# Altium integrated library Maxim Sensors.IntLib: 1172 symbols (part 60 of 61)
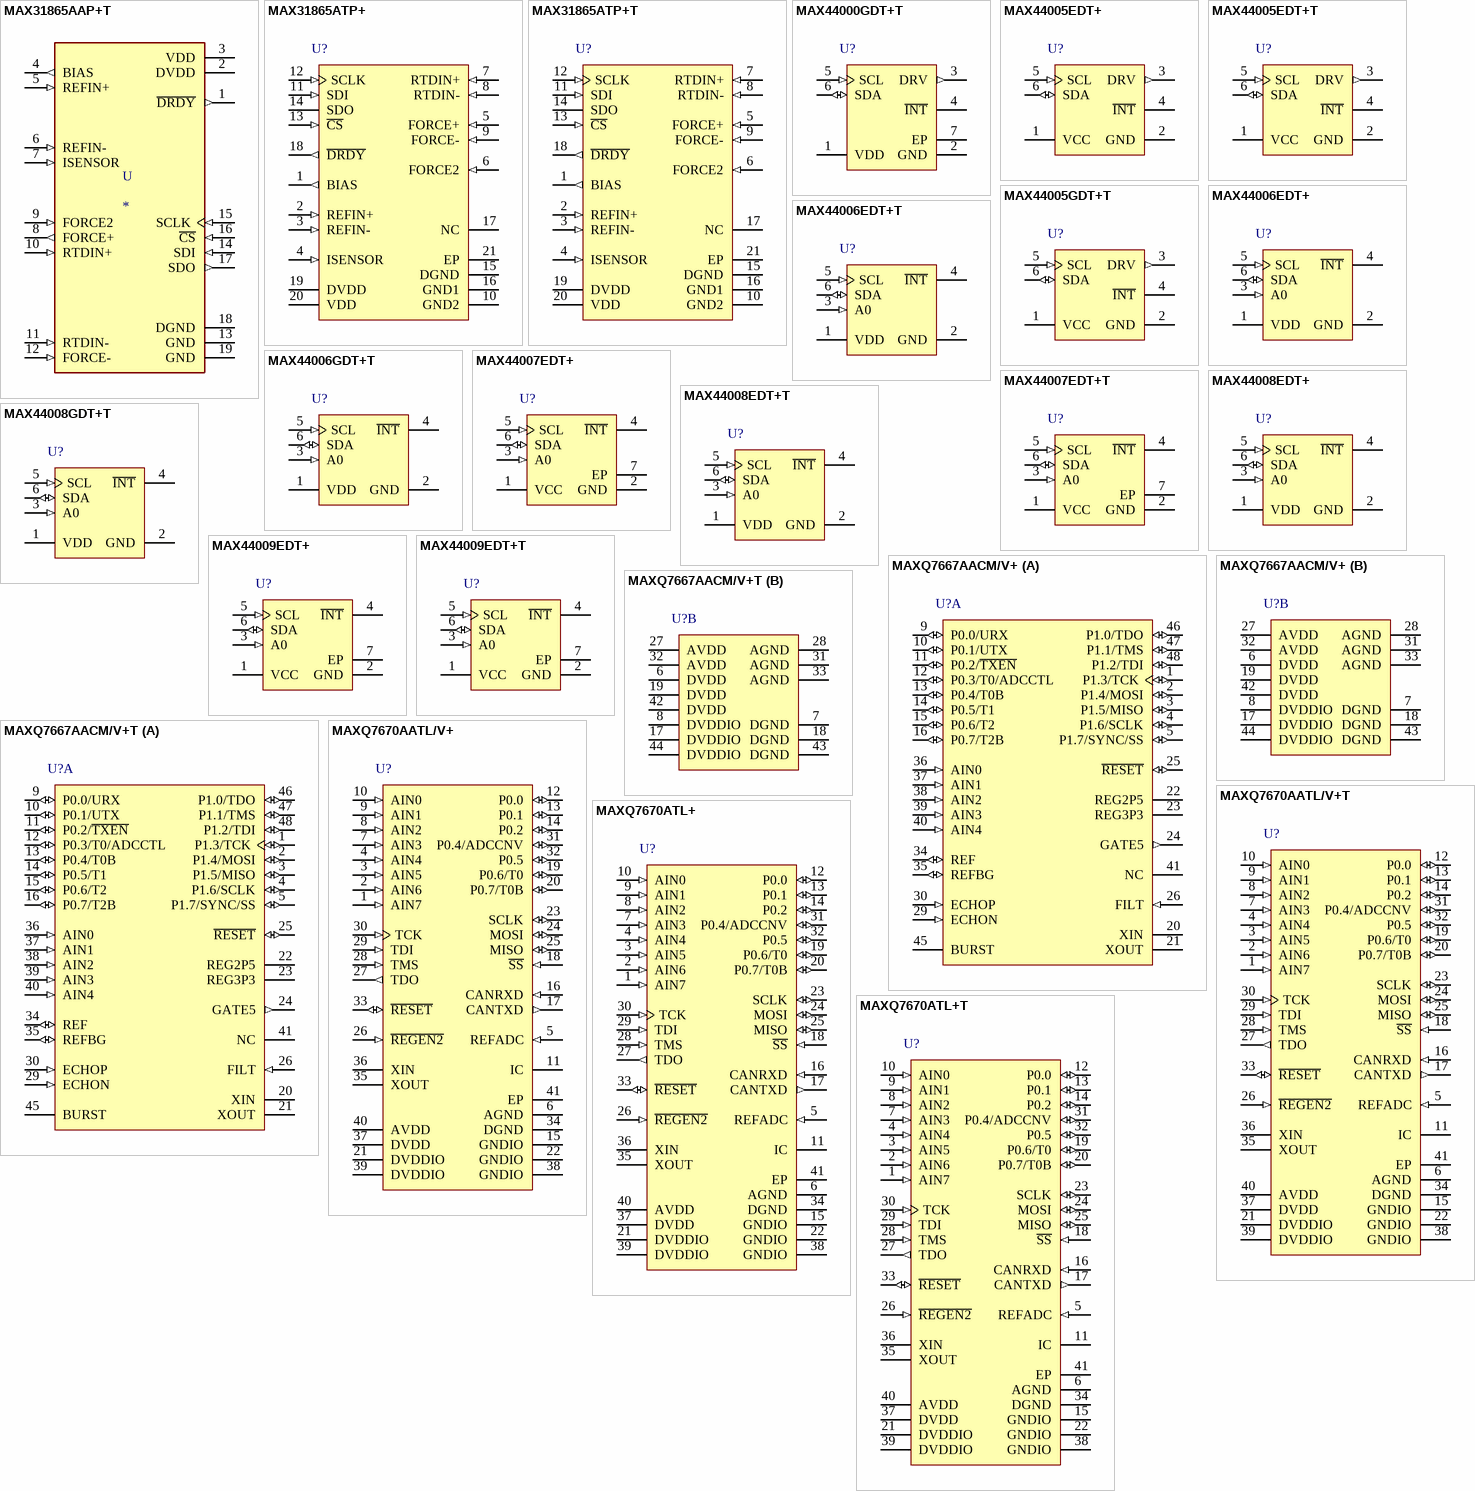
[diagram p92: symbols MAX31865AAP+T to MAXQ7670ATL+T]

## MAXQ7667AACM/V+T
designator U?
16-Bit, RISC, Microcontroller-Based, Ultrasonic Distance-Measuring System, with 12-bit ADC, -40 to 125 degC, 48-Pin QFP (C48+2), Pb-Free, Tape and Reel; Generic Part Number: MAXQ7667; PartNumber: MAXQ7667AACM/V+T; Calibration Method: Integrated microcontroller with FLASH memory; Industry Qualified: Automotive - AECQ100, Automotive - General; Interface: LIN, SPI ,UART; Microcontroller/CPU: Microcontroller (16-bit, 16 MHz); Output Type: Digital; DatasheetVersion: Rev. 1; PackageVersion: Rev. H, 11/2010; PackageReference: C48+2; PackageDescription: 48-Pin Low Quad Flatpack, Body 9 x 9 mm, Pitch 0.5 mm; Supplier 1: Digi-Key; Supplier Part Number 1: MAXQ7667AACM/V+T-ND; Supplier 2: Mouser; Supplier Part Number 2: 700-MAXQ7667AACM/VT; DACs/ADCs: 12-bit ADC; Features: 12-bits SAR, Burst Controller ,Timers ,Ultrasonic Receiver; Packing: Tape and Reel; Mounting Technology: Surface Mount; Code_JEDEC: MS-026; ComponentLink1Description: Manufacturer URL; ComponentLink1URL: http://www.maximintegrated.com/; ComponentLink2Description: Datasheet; ComponentLink2URL: http://datasheets.maximintegrated.com/en/ds/MAXQ7667.pdf; ComponentLink3Description: Package Specification; ComponentLink3URL: http://pdfserv.maximintegrated.com/package_dwgs/21-0054.PDF
footprint MAXM-C48+2_N (QFP, 48-Leads, Body 7x7mm, Pitch 0.5mm, IPC Medium Density)
footprint MAXM-C48+2_L (QFP, 48-Leads, Body 7x7mm, Pitch 0.5mm, IPC High Density)
footprint MAXM-C48+2_M (QFP, 48-Leads, Body 7x7mm, Pitch 0.5mm, IPC Low Density)
part A pins: 1 P1.3/TCK (io), 2 P1.4/MOSI (io), 3 P1.5/MISO (io), 4 P1.6/SCLK (io), 5 P1.7/SYNC/SS (io), 9 P0.0/URX (io), 10 P0.1/UTX (io), 11 P0.2/~{TXEN} (io), 12 P0.3/T0/ADCCTL (io), 13 P0.4/T0B (io), 14 P0.5/T1 (io), 15 P0.6/T2 (io), 16 P0.7/T2B (io), 20 XIN "Crystal Oscillator Input. Connect an external crystal or resonator between XIN and XOUT. When using an external clock source drive XIN with 2.5V level clock while leaving XOUT unconnected. Connect XIN to DGND when an (See Datasheet)", 21 XOUT "Crystal Oscillator Output. Connect an external crystal or resonator between XIN and XOUT. Leave XOUT unconnected when driving XIN with a 2.5V level clock or when an external clock source is not used.", 22 REG2P5 (power) "+2.5V Voltage Regulator Output", 23 REG3P3 (power) "+3.3V Voltage Regulator Output", 24 GATE5 (out) "+5V DVDDIO Voltage Regulator Control Output. GATE5 controls an external npn or nMOS transistor that passes power to DVDDIO.", 25 ~{RESET} (io) "Reset Input/Output. R\E\S\E\T\ is open drain with an internal pullup resistor to DVDDIO. Internal circuitry pulls R\E\S\E\T\ low when VDVDDIO falls below its brownout reset value or watchdog reset is enabled and the watchdog (See Datasheet)", 26 FILT (in) "PLL VCO Control Input. Connect external filter components on FILT for the internal PLL circuit. See the Typical Application Circuit/Functional Diagram.", 29 ECHON (in) "Negative Echo Input. AC-couple ECHON to an ultrasonic transducer.", 30 ECHOP (in) "Positive Echo Input. AC-couple ECHOP to an ultrasonic transducer.", 34 REF (io) "ADC Reference Input/Reference Buffer Output. When using the internal reference, the buffered bandgap reference voltage (VREF) is provided for both SAR and sigma-delta ADCs. When using an external reference, apply an external (See Datasheet)", 35 REFBG (io) "+2.5V Reference Output/Reference Buffer Input. Bypass to AGND with a 0.47uF capacitor.", 36 AIN0 (in) "SAR ADC Input 0. AIN0 pairs with AIN1 in differential mode.", 37 AIN1 (in) "SAR ADC Input 1. AIN1 pairs with AIN0 in differential mode.", 38 AIN2 (in) "SAR ADC Input 2. AIN2 pairs with AIN3 in differential mode.", 39 AIN3 (in) "SAR ADC Input 3. AIN3 pairs with AIN2 in differential mode.", 40 AIN4 (in) "SAR ADC Input 4", 41 NC "No Connection. Internally connected. Leave unconnected.", 45 BURST (hiz) "Burst Output. Burst is the ultrasonic transducer excitation pulse output. BURST remains in threestate mode on power-up.", 46 P1.0/TDO (io), 47 P1.1/TMS (io), 48 P1.2/TDI (io)
part B pins: 6 DVDD (power) "Digital Supply Voltage. Connect DVDD directly to a +2.5V external source or to REG2P5 output for single supply operation. Bypass DVDD to DGND with a 0.1uF capacitor as close as possible to the device. Connect all DVDD nodes (See Datasheet)", 7 DGND (power) "Digital Ground. Connect all DGND nodes together. Connect to AGND at a single point.", 8 DVDDIO (power) "Digital I/O Supply Voltage. DVDDIO powers all digital I/Os except for XIN and XOUT. Bypass DVDDIO to DGND with a 0.1uF capacitor as close as possible to the device. Connect all DVDDIO nodes together.", 17 DVDDIO (power) "Digital I/O Supply Voltage. DVDDIO powers all digital I/Os except for XIN and XOUT. Bypass DVDDIO to DGND with a 0.1uF capacitor as close as possible to the device. Connect all DVDDIO nodes together.", 18 DGND (power) "Digital Ground. Connect all DGND nodes together. Connect to AGND at a single point.", 19 DVDD (power) "Digital Supply Voltage. Connect DVDD directly to a +2.5V external source or to REG2P5 output for single supply operation. Bypass DVDD to DGND with a 0.1uF capacitor as close as possible to the device. Connect all DVDD nodes (See Datasheet)", 27 AVDD (power) "Analog Supply Voltage. Connect all AVDD inputs directly to a +3.3V source or to REG3P3 for selfpowered operation. Bypass each AVDD to AGND with a 0.1uF capacitor as close as possible to the device.", 28 AGND (power) "Analog Ground. Connect all AGND nodes together. Connect to DGND at a single point.", 31 AGND (power) "Analog Ground. Connect all AGND nodes together. Connect to DGND at a single point.", 32 AVDD (power) "Analog Supply Voltage. Connect all AVDD inputs directly to a +3.3V source or to REG3P3 for selfpowered operation. Bypass each AVDD to AGND with a 0.1uF capacitor as close as possible to the device.", 33 AGND (power) "Analog Ground. Connect all AGND nodes together. Connect to DGND at a single point.", 42 DVDD (power) "Digital Supply Voltage. Connect DVDD directly to a +2.5V external source or to REG2P5 output for single supply operation. Bypass DVDD to DGND with a 0.1uF capacitor as close as possible to the device. Connect all DVDD nodes (See Datasheet)", 43 DGND (power) "Digital Ground. Connect all DGND nodes together. Connect to AGND at a single point.", 44 DVDDIO (power) "Digital I/O Supply Voltage. DVDDIO powers all digital I/Os except for XIN and XOUT. Bypass DVDDIO to DGND with a 0.1uF capacitor as close as possible to the device. Connect all DVDDIO nodes together."

## MAXQ7670AATL/V+
designator U?
Microcontroller with 12-Bit ADC, PGA, 64 KB Flash, and CAN Interface, -40 to 125 degC, 40-Pin QFN (T4055+1), Pb-Free; Generic Part Number: MAXQ7670A; PartNumber: MAXQ7670AATL/V+; Calibration Method: Integrated microcontroller with FLASH memory; Interface: CAN, SPI; Microcontroller/CPU: Microcontroller (16-bit, 16 MHz); Output Type: Digital; DatasheetVersion: Rev. 0; PackageVersion: Rev. Q, 09/2011; PackageReference: T4055+1; PackageDescription: 40-Pin Thin Quad Flatpack, No Leads, Body 5 x 5 mm, Pitch 0.4 mm; Supplier 1: Digi-Key; Supplier Part Number 1: MAXQ7670AATL/V+-ND; Supplier 2: Mouser; Supplier Part Number 2: 700-MAXQ7670AATL/V+; DACs/ADCs: 12-bit ADC; Features: FLL, Internal Voltage Regulator, Multiple External Interrupts, Programmable-Gain Amplifier; Mounting Technology: Surface Mount; ComponentLink1Description: Manufacturer URL; ComponentLink1URL: http://www.maximintegrated.com/; ComponentLink2Description: Datasheet; ComponentLink2URL: http://datasheets.maximintegrated.com/en/ds/MAXQ7670A.pdf; ComponentLink3Description: Package Specification; ComponentLink3URL: http://pdfserv.maximintegrated.com/package_dwgs/21-0140.PDF
footprint MAXM-T4055+1_N (QFN, 40-Leads, Body 5x5mm, Pitch 0.4mm, Thermal Pad 3.5x3.5mm, IPC Medium Density)
footprint MAXM-T4055+1_L (QFN, 40-Leads, Body 5x5mm, Pitch 0.4mm, Thermal Pad 3.5x3.5mm, IPC High Density)
footprint MAXM-T4055+1_M (QFN, 40-Leads, Body 5x5mm, Pitch 0.4mm, Thermal Pad 3.5x3.5mm, IPC Low Density)
pins: 1 AIN7 (in) "Analog Input Channel 7. AIN7 is multiplexed to the PGA or ADC as single-ended analog input 7 or as a differential input with AIN6. As a differential input, the polarity of AIN7 is negative.", 2 AIN6 (in) "Analog Input Channel 6. AIN6 is multiplexed to the PGA or ADC as a single-ended analog input 6 or as a differential input with AIN7. As a differential input, the polarity of AIN6 is positive.", 3 AIN5 (in) "Analog Input Channel 5. AIN5 is multiplexed to the PGA or ADC as single-ended analog input 5 or as a differential input with AIN4. As a differential input, the polarity of AIN5 is negative.", 4 AIN4 (in) "Analog Input Channel 4. AIN4 is multiplexed to the PGA or ADC as single-ended analog input 4 or as a differential input with AIN5. As a differential input, the polarity of AIN4 is positive.", 5 REFADC (in) "ADC External Reference Input. Connect an external reference between 1V and VAVDD.", 6 AGND (power) "Analog Ground", 7 AIN3 (in) "Analog Input Channel 3. AIN3 is multiplexed to the PGA or ADC as single-ended analog input 3 or as a differential input with AIN2. As a differential input, the polarity of AIN3 is negative.", 8 AIN2 (in) "Analog Input Channel 2. AIN2 is multiplexed to the PGA or ADC as single-ended analog input 2 or as a differential input with AIN3. As a differential input, the polarity of AIN2 is positive.", 9 AIN1 (in) "Analog Input Channel 1. AIN1 is multiplexed to the PGA or ADC as single-ended analog input 1 or as a differential input with AIN0. As a differential input, the polarity of AIN1 is negative.", 10 AIN0 (in) "Analog Input Channel 0. AIN0 is multiplexed to the PGA or ADC as single-ended analog input 0 or as a differential input with AIN1. As a differential input, the polarity of AIN0 is positive.", 11 IC "Internally Connected. Connect to GNDIO for proper operation.", 12 P0.0 (io) "Port 0 Bit 0. P0.0 is a general-purpose digital I/O with interrupt/wake-up capability.", 13 P0.1 (io) "Port 0 Bit 1. P0.1 is a general-purpose digital I/O with interrupt/wake-up capability.", 14 P0.2 (io) "Port 0 Bit 2. P0.2 is a general-purpose digital I/O with interrupt/wake-up capability.", 15 GNDIO (power) "Digital I/O Ground and Regulator Ground", 16 CANRXD (in) "CAN Bus Receiver Input. CAN receiver input.", 17 CANTXD (out) "CAN Bus Transmitter Output. CAN transmitter output.", 18 ~{SS} (in) "Active-Low, SPI Port Slave Select Input. In SPI slave mode, this is the slave select input. In SPI master mode, this is an input and connection is optional (connect if mode fault enable is required, refer to the MAXQ7670 (See Datasheet)", 19 P0.6/T0 (io), 20 P0.7/T0B (io), 21 DVDDIO (power) "Digital I/O Supply Voltage and Regulator Supply Input. DVDDIO supplies all digital I/O except for XIN and XOUT, and supplies power to the two internal linear regulators, AVDD and DVDD. Bypass DVDDIO to GNDIO with a 0.1uF (See Datasheet)", 22 GNDIO (power) "Digital I/O Ground and Regulator Ground", 23 SCLK (io) "SPI Serial Clock. SCLK is the SPI interface serial clock I/O. In SPI master mode, SCLK is an output. While in SPI slave mode, SCLK is an input.", 24 MOSI (io) "SPI Serial Data I/O. MOSI is the SPI interface serial data output in master mode or serial data input in slave mode.", 25 MISO (io) "SPI Serial Data I/O. MISO is the SPI interface serial data input in master mode or serial data output in slave mode.", 26 ~{REGEN2} (in) "Active-Low +2.5V Linear Regulator Enable Input. Connect R\E\G\E\N\2\ to GNDIO to enable the +2.5V linear regulator. Connect to DVDDIO to disable the +2.5V linear regulator.", 27 TDO (out) "JTAG Serial Test Data Output. TDO is the JTAG serial test, data output.", 28 TMS (in) "JTAG Test Mode Select. TMS is the JTAG test mode, select input.", 29 TDI (in) "JTAG Serial Test Data Input. TDI is the JTAG serial test, data input.", 30 TCK (in) "JTAG Serial Test Clock Input. TCK is the JTAG serial test, clock input.", 31 P0.4/ADCCNV (io), 32 P0.5 (io) "Port 0 Bit 5. P0.5 is a general-purpose digital I/O with interrupt/wake-up capability.", 33 ~{RESET} (io) "Reset Input/Output. Active-low input/output with internal 55k ohm pullup to DVDDIO. Drive low to reset the MAXQ7670A. The MAXQ20 uC core holds R\E\S\E\T\ low during POR and during DVDD brownout conditions.", 34 DGND (power) "Digital Ground", 35 XOUT "High-Frequency Crystal Output. Connect an external crystal to XIN and XOUT for normal operation, or leave unconnected if XIN is driven with an external clock source. Leave unconnected if an external clock source is not used.", 36 XIN "High-Frequency Crystal Input. Connect an external crystal or resonator to XIN and XOUT for normal operation, or drive XIN with an external clock source. Leave unconnected if an external clock source is not used .", 37 DVDD (power) "Digital Supply Voltage. DVDD supplies internal digital core and flash memory. DVDD is directly connected to the output of the internal + 2.5V linear regulator . Disable the internal regulator (through R\E\G\E\N\2\) to (See Datasheet)", 38 GNDIO (power) "Digital I/O Ground and Regulator Ground", 39 DVDDIO (power) "Digital I/O Supply Voltage and Regulator Supply Input. DVDDIO supplies all digital I/O except for XIN and XOUT, and supplies power to the two internal linear regulators, AVDD and DVDD. Bypass DVDDIO to GNDIO with a 0.1uF (See Datasheet)", 40 AVDD (power) "Analog Supply Voltage. AVDD supplies PGA and ADC. AVDD is directly connected to the output of the internal +3.3V linear regulator. Disable the internal regulator (via software) to connect an external supply.Bypass AVDD to (See Datasheet)", 41 EP (power) "Exposed Pad. Connect EP to the ground plane."

## MAXQ7670AATL/V+T
designator U?
Microcontroller with 12-Bit ADC, PGA, 64 KB Flash, and CAN Interface, -40 to 125 degC, 40-Pin QFN (T4055+1), Pb-Free, Tape and Reel; Generic Part Number: MAXQ7670A; PartNumber: MAXQ7670AATL/V+T; Calibration Method: Integrated microcontroller with FLASH memory; Interface: CAN, SPI; Microcontroller/CPU: Microcontroller (16-bit, 16 MHz); Output Type: Digital; DatasheetVersion: Rev. 0; PackageVersion: Rev. Q, 09/2011; PackageReference: T4055+1; PackageDescription: 40-Pin Thin Quad Flatpack, No Leads, Body 5 x 5 mm, Pitch 0.4 mm; Supplier 1: Digi-Key; Supplier Part Number 1: MAXQ7670AATL/V+T-ND; Supplier 2: Mouser; Supplier Part Number 2: 700-MAXQ7670AATL/V+T; DACs/ADCs: 12-bit ADC; Features: FLL, Internal Voltage Regulator ,Multiple External Interrupts ,Programmable-Gain Amplifier; Packing: Tape and Reel; Mounting Technology: Surface Mount; ComponentLink1Description: Manufacturer URL; ComponentLink1URL: http://www.maximintegrated.com/; ComponentLink2Description: Datasheet; ComponentLink2URL: http://datasheets.maximintegrated.com/en/ds/MAXQ7670A.pdf; ComponentLink3Description: Package Specification; ComponentLink3URL: http://pdfserv.maximintegrated.com/package_dwgs/21-0140.PDF
footprint MAXM-T4055+1_N (QFN, 40-Leads, Body 5x5mm, Pitch 0.4mm, Thermal Pad 3.5x3.5mm, IPC Medium Density)
footprint MAXM-T4055+1_L (QFN, 40-Leads, Body 5x5mm, Pitch 0.4mm, Thermal Pad 3.5x3.5mm, IPC High Density)
footprint MAXM-T4055+1_M (QFN, 40-Leads, Body 5x5mm, Pitch 0.4mm, Thermal Pad 3.5x3.5mm, IPC Low Density)
pins: 1 AIN7 (in) "Analog Input Channel 7. AIN7 is multiplexed to the PGA or ADC as single-ended analog input 7 or as a differential input with AIN6. As a differential input, the polarity of AIN7 is negative.", 2 AIN6 (in) "Analog Input Channel 6. AIN6 is multiplexed to the PGA or ADC as a single-ended analog input 6 or as a differential input with AIN7. As a differential input, the polarity of AIN6 is positive.", 3 AIN5 (in) "Analog Input Channel 5. AIN5 is multiplexed to the PGA or ADC as single-ended analog input 5 or as a differential input with AIN4. As a differential input, the polarity of AIN5 is negative.", 4 AIN4 (in) "Analog Input Channel 4. AIN4 is multiplexed to the PGA or ADC as single-ended analog input 4 or as a differential input with AIN5. As a differential input, the polarity of AIN4 is positive.", 5 REFADC (in) "ADC External Reference Input. Connect an external reference between 1V and VAVDD.", 6 AGND (power) "Analog Ground", 7 AIN3 (in) "Analog Input Channel 3. AIN3 is multiplexed to the PGA or ADC as single-ended analog input 3 or as a differential input with AIN2. As a differential input, the polarity of AIN3 is negative.", 8 AIN2 (in) "Analog Input Channel 2. AIN2 is multiplexed to the PGA or ADC as single-ended analog input 2 or as a differential input with AIN3. As a differential input, the polarity of AIN2 is positive.", 9 AIN1 (in) "Analog Input Channel 1. AIN1 is multiplexed to the PGA or ADC as single-ended analog input 1 or as a differential input with AIN0. As a differential input, the polarity of AIN1 is negative.", 10 AIN0 (in) "Analog Input Channel 0. AIN0 is multiplexed to the PGA or ADC as single-ended analog input 0 or as a differential input with AIN1. As a differential input, the polarity of AIN0 is positive.", 11 IC "Internally Connected. Connect to GNDIO for proper operation.", 12 P0.0 (io) "Port 0 Bit 0. P0.0 is a general-purpose digital I/O with interrupt/wake-up capability.", 13 P0.1 (io) "Port 0 Bit 1. P0.1 is a general-purpose digital I/O with interrupt/wake-up capability.", 14 P0.2 (io) "Port 0 Bit 2. P0.2 is a general-purpose digital I/O with interrupt/wake-up capability.", 15 GNDIO (power) "Digital I/O Ground and Regulator Ground", 16 CANRXD (in) "CAN Bus Receiver Input. CAN receiver input.", 17 CANTXD (out) "CAN Bus Transmitter Output. CAN transmitter output.", 18 ~{SS} (in) "Active-Low, SPI Port Slave Select Input. In SPI slave mode, this is the slave select input. In SPI master mode, this is an input and connection is optional (connect if mode fault enable is required, refer to the MAXQ7670 (See Datasheet)", 19 P0.6/T0 (io), 20 P0.7/T0B (io), 21 DVDDIO (power) "Digital I/O Supply Voltage and Regulator Supply Input. DVDDIO supplies all digital I/O except for XIN and XOUT, and supplies power to the two internal linear regulators, AVDD and DVDD. Bypass DVDDIO to GNDIO with a 0.1uF (See Datasheet)", 22 GNDIO (power) "Digital I/O Ground and Regulator Ground", 23 SCLK (io) "SPI Serial Clock. SCLK is the SPI interface serial clock I/O. In SPI master mode, SCLK is an output. While in SPI slave mode, SCLK is an input.", 24 MOSI (io) "SPI Serial Data I/O. MOSI is the SPI interface serial data output in master mode or serial data input in slave mode.", 25 MISO (io) "SPI Serial Data I/O. MISO is the SPI interface serial data input in master mode or serial data output in slave mode.", 26 ~{REGEN2} (in) "Active-Low +2.5V Linear Regulator Enable Input. Connect R\E\G\E\N\2\ to GNDIO to enable the +2.5V linear regulator. Connect to DVDDIO to disable the +2.5V linear regulator.", 27 TDO (out) "JTAG Serial Test Data Output. TDO is the JTAG serial test, data output.", 28 TMS (in) "JTAG Test Mode Select. TMS is the JTAG test mode, select input.", 29 TDI (in) "JTAG Serial Test Data Input. TDI is the JTAG serial test, data input.", 30 TCK (in) "JTAG Serial Test Clock Input. TCK is the JTAG serial test, clock input.", 31 P0.4/ADCCNV (io), 32 P0.5 (io) "Port 0 Bit 5. P0.5 is a general-purpose digital I/O with interrupt/wake-up capability.", 33 ~{RESET} (io) "Reset Input/Output. Active-low input/output with internal 55k ohm pullup to DVDDIO. Drive low to reset the MAXQ7670A. The MAXQ20 uC core holds R\E\S\E\T\ low during POR and during DVDD brownout conditions.", 34 DGND (power) "Digital Ground", 35 XOUT "High-Frequency Crystal Output. Connect an external crystal to XIN and XOUT for normal operation, or leave unconnected if XIN is driven with an external clock source. Leave unconnected if an external clock source is not used.", 36 XIN "High-Frequency Crystal Input. Connect an external crystal or resonator to XIN and XOUT for normal operation, or drive XIN with an external clock source. Leave unconnected if an external clock source is not used .", 37 DVDD (power) "Digital Supply Voltage. DVDD supplies internal digital core and flash memory. DVDD is directly connected to the output of the internal + 2.5V linear regulator . Disable the internal regulator (through R\E\G\E\N\2\) to (See Datasheet)", 38 GNDIO (power) "Digital I/O Ground and Regulator Ground", 39 DVDDIO (power) "Digital I/O Supply Voltage and Regulator Supply Input. DVDDIO supplies all digital I/O except for XIN and XOUT, and supplies power to the two internal linear regulators, AVDD and DVDD. Bypass DVDDIO to GNDIO with a 0.1uF (See Datasheet)", 40 AVDD (power) "Analog Supply Voltage. AVDD supplies PGA and ADC. AVDD is directly connected to the output of the internal +3.3V linear regulator. Disable the internal regulator (via software) to connect an external supply.Bypass AVDD to (See Datasheet)", 41 EP (power) "Exposed Pad. Connect EP to the ground plane."

## MAXQ7670ATL+
designator U?
Microcontroller with 12-Bit ADC, PGA, 64 KB Flash, and CAN Interface, -40 to 125 degC, 40-Pin QFN (T4055+1), Pb-Free; Generic Part Number: MAXQ7670A; PartNumber: MAXQ7670ATL+; Calibration Method: Integrated microcontroller with FLASH memory; Interface: CAN, SPI; Microcontroller/CPU: Microcontroller (16-bit, 16 MHz); Output Type: Digital; DatasheetVersion: Rev. 0; PackageVersion: Rev. Q, 09/2011; PackageReference: T4055+1; PackageDescription: 40-Pin Thin Quad Flatpack, No Leads, Body 5 x 5 mm, Pitch 0.4 mm; Supplier 1: Digi-Key; Supplier Part Number 1: MAXQ7670ATL+-ND; Supplier 2: Mouser; Supplier Part Number 2: 700-MAXQ7670ATL; DACs/ADCs: 12-bit ADC; Features: FLL, Internal Voltage Regulator ,Multiple External Interrupts ,Programmable-Gain Amplifier; Mounting Technology: Surface Mount; ComponentLink1Description: Manufacturer URL; ComponentLink1URL: http://www.maximintegrated.com/; ComponentLink2Description: Datasheet; ComponentLink2URL: http://datasheets.maximintegrated.com/en/ds/MAXQ7670A.pdf; ComponentLink3Description: Package Specification; ComponentLink3URL: http://pdfserv.maximintegrated.com/package_dwgs/21-0140.PDF
footprint MAXM-T4055+1_N (QFN, 40-Leads, Body 5x5mm, Pitch 0.4mm, Thermal Pad 3.5x3.5mm, IPC Medium Density)
footprint MAXM-T4055+1_L (QFN, 40-Leads, Body 5x5mm, Pitch 0.4mm, Thermal Pad 3.5x3.5mm, IPC High Density)
footprint MAXM-T4055+1_M (QFN, 40-Leads, Body 5x5mm, Pitch 0.4mm, Thermal Pad 3.5x3.5mm, IPC Low Density)
pins: 1 AIN7 (in) "Analog Input Channel 7. AIN7 is multiplexed to the PGA or ADC as single-ended analog input 7 or as a differential input with AIN6. As a differential input, the polarity of AIN7 is negative.", 2 AIN6 (in) "Analog Input Channel 6. AIN6 is multiplexed to the PGA or ADC as a single-ended analog input 6 or as a differential input with AIN7. As a differential input, the polarity of AIN6 is positive.", 3 AIN5 (in) "Analog Input Channel 5. AIN5 is multiplexed to the PGA or ADC as single-ended analog input 5 or as a differential input with AIN4. As a differential input, the polarity of AIN5 is negative.", 4 AIN4 (in) "Analog Input Channel 4. AIN4 is multiplexed to the PGA or ADC as single-ended analog input 4 or as a differential input with AIN5. As a differential input, the polarity of AIN4 is positive.", 5 REFADC (in) "ADC External Reference Input. Connect an external reference between 1V and VAVDD.", 6 AGND (power) "Analog Ground", 7 AIN3 (in) "Analog Input Channel 3. AIN3 is multiplexed to the PGA or ADC as single-ended analog input 3 or as a differential input with AIN2. As a differential input, the polarity of AIN3 is negative.", 8 AIN2 (in) "Analog Input Channel 2. AIN2 is multiplexed to the PGA or ADC as single-ended analog input 2 or as a differential input with AIN3. As a differential input, the polarity of AIN2 is positive.", 9 AIN1 (in) "Analog Input Channel 1. AIN1 is multiplexed to the PGA or ADC as single-ended analog input 1 or as a differential input with AIN0. As a differential input, the polarity of AIN1 is negative.", 10 AIN0 (in) "Analog Input Channel 0. AIN0 is multiplexed to the PGA or ADC as single-ended analog input 0 or as a differential input with AIN1. As a differential input, the polarity of AIN0 is positive.", 11 IC "Internally Connected. Connect to GNDIO for proper operation.", 12 P0.0 (io) "Port 0 Bit 0. P0.0 is a general-purpose digital I/O with interrupt/wake-up capability.", 13 P0.1 (io) "Port 0 Bit 1. P0.1 is a general-purpose digital I/O with interrupt/wake-up capability.", 14 P0.2 (io) "Port 0 Bit 2. P0.2 is a general-purpose digital I/O with interrupt/wake-up capability.", 15 GNDIO (power) "Digital I/O Ground and Regulator Ground", 16 CANRXD (in) "CAN Bus Receiver Input. CAN receiver input.", 17 CANTXD (out) "CAN Bus Transmitter Output. CAN transmitter output.", 18 ~{SS} (in) "Active-Low, SPI Port Slave Select Input. In SPI slave mode, this is the slave select input. In SPI master mode, this is an input and connection is optional (connect if mode fault enable is required, refer to the MAXQ7670 (See Datasheet)", 19 P0.6/T0 (io), 20 P0.7/T0B (io), 21 DVDDIO (power) "Digital I/O Supply Voltage and Regulator Supply Input. DVDDIO supplies all digital I/O except for XIN and XOUT, and supplies power to the two internal linear regulators, AVDD and DVDD. Bypass DVDDIO to GNDIO with a 0.1uF (See Datasheet)", 22 GNDIO (power) "Digital I/O Ground and Regulator Ground", 23 SCLK (io) "SPI Serial Clock. SCLK is the SPI interface serial clock I/O. In SPI master mode, SCLK is an output. While in SPI slave mode, SCLK is an input.", 24 MOSI (io) "SPI Serial Data I/O. MOSI is the SPI interface serial data output in master mode or serial data input in slave mode.", 25 MISO (io) "SPI Serial Data I/O. MISO is the SPI interface serial data input in master mode or serial data output in slave mode.", 26 ~{REGEN2} (in) "Active-Low +2.5V Linear Regulator Enable Input. Connect R\E\G\E\N\2\ to GNDIO to enable the +2.5V linear regulator. Connect to DVDDIO to disable the +2.5V linear regulator.", 27 TDO (out) "JTAG Serial Test Data Output. TDO is the JTAG serial test, data output.", 28 TMS (in) "JTAG Test Mode Select. TMS is the JTAG test mode, select input.", 29 TDI (in) "JTAG Serial Test Data Input. TDI is the JTAG serial test, data input.", 30 TCK (in) "JTAG Serial Test Clock Input. TCK is the JTAG serial test, clock input.", 31 P0.4/ADCCNV (io), 32 P0.5 (io) "Port 0 Bit 5. P0.5 is a general-purpose digital I/O with interrupt/wake-up capability.", 33 ~{RESET} (io) "Reset Input/Output. Active-low input/output with internal 55k ohm pullup to DVDDIO. Drive low to reset the MAXQ7670A. The MAXQ20 uC core holds R\E\S\E\T\ low during POR and during DVDD brownout conditions.", 34 DGND (power) "Digital Ground", 35 XOUT "High-Frequency Crystal Output. Connect an external crystal to XIN and XOUT for normal operation, or leave unconnected if XIN is driven with an external clock source. Leave unconnected if an external clock source is not used.", 36 XIN "High-Frequency Crystal Input. Connect an external crystal or resonator to XIN and XOUT for normal operation, or drive XIN with an external clock source. Leave unconnected if an external clock source is not used .", 37 DVDD (power) "Digital Supply Voltage. DVDD supplies internal digital core and flash memory. DVDD is directly connected to the output of the internal + 2.5V linear regulator . Disable the internal regulator (through R\E\G\E\N\2\) to (See Datasheet)", 38 GNDIO (power) "Digital I/O Ground and Regulator Ground", 39 DVDDIO (power) "Digital I/O Supply Voltage and Regulator Supply Input. DVDDIO supplies all digital I/O except for XIN and XOUT, and supplies power to the two internal linear regulators, AVDD and DVDD. Bypass DVDDIO to GNDIO with a 0.1uF (See Datasheet)", 40 AVDD (power) "Analog Supply Voltage. AVDD supplies PGA and ADC. AVDD is directly connected to the output of the internal +3.3V linear regulator. Disable the internal regulator (via software) to connect an external supply.Bypass AVDD to (See Datasheet)", 41 EP (power) "Exposed Pad. Connect EP to the ground plane."

## MAXQ7670ATL+T
designator U?
Microcontroller with 12-Bit ADC, PGA, 64 KB Flash, and CAN Interface, -40 to 125 degC, 40-Pin QFN (T4055+1), Pb-Free, Tape and Reel; Generic Part Number: MAXQ7670A; PartNumber: MAXQ7670ATL+T; Calibration Method: Integrated microcontroller with FLASH memory; Interface: CAN, SPI; Microcontroller/CPU: Microcontroller (16-bit, 16 MHz); Output Type: Digital; DatasheetVersion: Rev. 0; PackageVersion: Rev. Q, 09/2011; PackageReference: T4055+1; PackageDescription: 40-Pin Thin Quad Flatpack, No Leads, Body 5 x 5 mm, Pitch 0.4 mm; Supplier 1: Digi-Key; Supplier Part Number 1: MAXQ7670ATL+T-ND; Supplier 2: Mouser; Supplier Part Number 2: 700-MAXQ7670ATLT; DACs/ADCs: 12-bit ADC; Features: FLL, Internal Voltage Regulator ,Multiple External Interrupts ,Programmable-Gain Amplifier; Packing: Tape and Reel; Mounting Technology: Surface Mount; ComponentLink1Description: Manufacturer URL; ComponentLink1URL: http://www.maximintegrated.com/; ComponentLink2Description: Datasheet; ComponentLink2URL: http://datasheets.maximintegrated.com/en/ds/MAXQ7670A.pdf; ComponentLink3Description: Package Specification; ComponentLink3URL: http://pdfserv.maximintegrated.com/package_dwgs/21-0140.PDF
footprint MAXM-T4055+1_N (QFN, 40-Leads, Body 5x5mm, Pitch 0.4mm, Thermal Pad 3.5x3.5mm, IPC Medium Density)
footprint MAXM-T4055+1_L (QFN, 40-Leads, Body 5x5mm, Pitch 0.4mm, Thermal Pad 3.5x3.5mm, IPC High Density)
footprint MAXM-T4055+1_M (QFN, 40-Leads, Body 5x5mm, Pitch 0.4mm, Thermal Pad 3.5x3.5mm, IPC Low Density)
pins: 1 AIN7 (in) "Analog Input Channel 7. AIN7 is multiplexed to the PGA or ADC as single-ended analog input 7 or as a differential input with AIN6. As a differential input, the polarity of AIN7 is negative.", 2 AIN6 (in) "Analog Input Channel 6. AIN6 is multiplexed to the PGA or ADC as a single-ended analog input 6 or as a differential input with AIN7. As a differential input, the polarity of AIN6 is positive.", 3 AIN5 (in) "Analog Input Channel 5. AIN5 is multiplexed to the PGA or ADC as single-ended analog input 5 or as a differential input with AIN4. As a differential input, the polarity of AIN5 is negative.", 4 AIN4 (in) "Analog Input Channel 4. AIN4 is multiplexed to the PGA or ADC as single-ended analog input 4 or as a differential input with AIN5. As a differential input, the polarity of AIN4 is positive.", 5 REFADC (in) "ADC External Reference Input. Connect an external reference between 1V and VAVDD.", 6 AGND (power) "Analog Ground", 7 AIN3 (in) "Analog Input Channel 3. AIN3 is multiplexed to the PGA or ADC as single-ended analog input 3 or as a differential input with AIN2. As a differential input, the polarity of AIN3 is negative.", 8 AIN2 (in) "Analog Input Channel 2. AIN2 is multiplexed to the PGA or ADC as single-ended analog input 2 or as a differential input with AIN3. As a differential input, the polarity of AIN2 is positive.", 9 AIN1 (in) "Analog Input Channel 1. AIN1 is multiplexed to the PGA or ADC as single-ended analog input 1 or as a differential input with AIN0. As a differential input, the polarity of AIN1 is negative.", 10 AIN0 (in) "Analog Input Channel 0. AIN0 is multiplexed to the PGA or ADC as single-ended analog input 0 or as a differential input with AIN1. As a differential input, the polarity of AIN0 is positive.", 11 IC "Internally Connected. Connect to GNDIO for proper operation.", 12 P0.0 (io) "Port 0 Bit 0. P0.0 is a general-purpose digital I/O with interrupt/wake-up capability.", 13 P0.1 (io) "Port 0 Bit 1. P0.1 is a general-purpose digital I/O with interrupt/wake-up capability.", 14 P0.2 (io) "Port 0 Bit 2. P0.2 is a general-purpose digital I/O with interrupt/wake-up capability.", 15 GNDIO (power) "Digital I/O Ground and Regulator Ground", 16 CANRXD (in) "CAN Bus Receiver Input. CAN receiver input.", 17 CANTXD (out) "CAN Bus Transmitter Output. CAN transmitter output.", 18 ~{SS} (in) "Active-Low, SPI Port Slave Select Input. In SPI slave mode, this is the slave select input. In SPI master mode, this is an input and connection is optional (connect if mode fault enable is required, refer to the MAXQ7670 (See Datasheet)", 19 P0.6/T0 (io), 20 P0.7/T0B (io), 21 DVDDIO (power) "Digital I/O Supply Voltage and Regulator Supply Input. DVDDIO supplies all digital I/O except for XIN and XOUT, and supplies power to the two internal linear regulators, AVDD and DVDD. Bypass DVDDIO to GNDIO with a 0.1uF (See Datasheet)", 22 GNDIO (power) "Digital I/O Ground and Regulator Ground", 23 SCLK (io) "SPI Serial Clock. SCLK is the SPI interface serial clock I/O. In SPI master mode, SCLK is an output. While in SPI slave mode, SCLK is an input.", 24 MOSI (io) "SPI Serial Data I/O. MOSI is the SPI interface serial data output in master mode or serial data input in slave mode.", 25 MISO (io) "SPI Serial Data I/O. MISO is the SPI interface serial data input in master mode or serial data output in slave mode.", 26 ~{REGEN2} (in) "Active-Low +2.5V Linear Regulator Enable Input. Connect R\E\G\E\N\2\ to GNDIO to enable the +2.5V linear regulator. Connect to DVDDIO to disable the +2.5V linear regulator.", 27 TDO (out) "JTAG Serial Test Data Output. TDO is the JTAG serial test, data output.", 28 TMS (in) "JTAG Test Mode Select. TMS is the JTAG test mode, select input.", 29 TDI (in) "JTAG Serial Test Data Input. TDI is the JTAG serial test, data input.", 30 TCK (in) "JTAG Serial Test Clock Input. TCK is the JTAG serial test, clock input.", 31 P0.4/ADCCNV (io), 32 P0.5 (io) "Port 0 Bit 5. P0.5 is a general-purpose digital I/O with interrupt/wake-up capability.", 33 ~{RESET} (io) "Reset Input/Output. Active-low input/output with internal 55k ohm pullup to DVDDIO. Drive low to reset the MAXQ7670A. The MAXQ20 uC core holds R\E\S\E\T\ low during POR and during DVDD brownout conditions.", 34 DGND (power) "Digital Ground", 35 XOUT "High-Frequency Crystal Output. Connect an external crystal to XIN and XOUT for normal operation, or leave unconnected if XIN is driven with an external clock source. Leave unconnected if an external clock source is not used.", 36 XIN "High-Frequency Crystal Input. Connect an external crystal or resonator to XIN and XOUT for normal operation, or drive XIN with an external clock source. Leave unconnected if an external clock source is not used .", 37 DVDD (power) "Digital Supply Voltage. DVDD supplies internal digital core and flash memory. DVDD is directly connected to the output of the internal + 2.5V linear regulator . Disable the internal regulator (through R\E\G\E\N\2\) to (See Datasheet)", 38 GNDIO (power) "Digital I/O Ground and Regulator Ground", 39 DVDDIO (power) "Digital I/O Supply Voltage and Regulator Supply Input. DVDDIO supplies all digital I/O except for XIN and XOUT, and supplies power to the two internal linear regulators, AVDD and DVDD. Bypass DVDDIO to GNDIO with a 0.1uF (See Datasheet)", 40 AVDD (power) "Analog Supply Voltage. AVDD supplies PGA and ADC. AVDD is directly connected to the output of the internal +3.3V linear regulator. Disable the internal regulator (via software) to connect an external supply.Bypass AVDD to (See Datasheet)", 41 EP (power) "Exposed Pad. Connect EP to the ground plane."

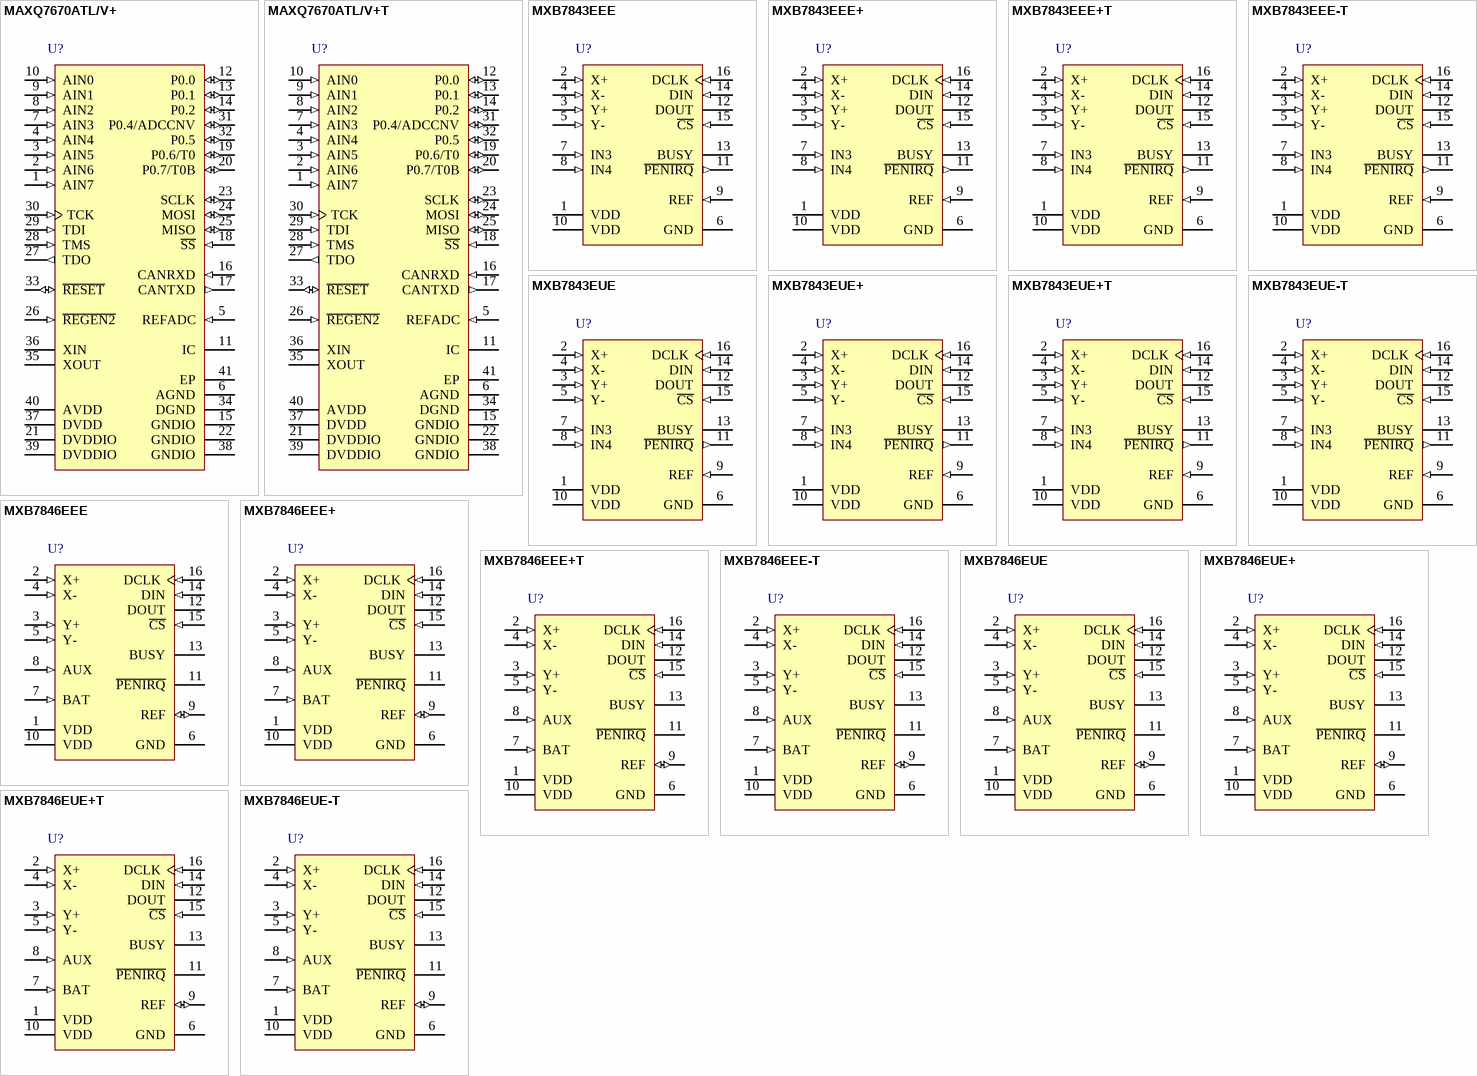
[diagram p33: symbols MAXQ7670ATL/V+ to MXB7846EUE-T]

## MAXQ7670ATL/V+
designator U?
Microcontroller with 12-Bit ADC, PGA, 64 KB Flash, and CAN Interface, -40 to 125 degC, 40-Pin QFN (T4055+1), Pb-Free; Generic Part Number: MAXQ7670A; PartNumber: MAXQ7670ATL/V+; Calibration Method: Integrated microcontroller with FLASH memory; Interface: CAN, SPI; Microcontroller/CPU: Microcontroller (16-bit, 16 MHz); Output Type: Digital; DatasheetVersion: Rev. 0; PackageVersion: Rev. Q, 09/2011; PackageReference: T4055+1; PackageDescription: 40-Pin Thin Quad Flatpack, No Leads, Body 5 x 5 mm, Pitch 0.4 mm; Supplier 1: Digi-Key; Supplier Part Number 1: MAXQ7670ATL/V+-ND; Supplier 2: Mouser; Supplier Part Number 2: 700-MAXQ7670ATL/V; DACs/ADCs: 12-bit ADC; Features: FLL, Internal Voltage Regulator ,Multiple External Interrupts ,Programmable-Gain Amplifier; Mounting Technology: Surface Mount; ComponentLink1Description: Manufacturer URL; ComponentLink1URL: http://www.maximintegrated.com/; ComponentLink2Description: Datasheet; ComponentLink2URL: http://datasheets.maximintegrated.com/en/ds/MAXQ7670A.pdf; ComponentLink3Description: Package Specification; ComponentLink3URL: http://pdfserv.maximintegrated.com/package_dwgs/21-0140.PDF
footprint MAXM-T4055+1_N (QFN, 40-Leads, Body 5x5mm, Pitch 0.4mm, Thermal Pad 3.5x3.5mm, IPC Medium Density)
footprint MAXM-T4055+1_L (QFN, 40-Leads, Body 5x5mm, Pitch 0.4mm, Thermal Pad 3.5x3.5mm, IPC High Density)
footprint MAXM-T4055+1_M (QFN, 40-Leads, Body 5x5mm, Pitch 0.4mm, Thermal Pad 3.5x3.5mm, IPC Low Density)
pins: 1 AIN7 (in) "Analog Input Channel 7. AIN7 is multiplexed to the PGA or ADC as single-ended analog input 7 or as a differential input with AIN6. As a differential input, the polarity of AIN7 is negative.", 2 AIN6 (in) "Analog Input Channel 6. AIN6 is multiplexed to the PGA or ADC as a single-ended analog input 6 or as a differential input with AIN7. As a differential input, the polarity of AIN6 is positive.", 3 AIN5 (in) "Analog Input Channel 5. AIN5 is multiplexed to the PGA or ADC as single-ended analog input 5 or as a differential input with AIN4. As a differential input, the polarity of AIN5 is negative.", 4 AIN4 (in) "Analog Input Channel 4. AIN4 is multiplexed to the PGA or ADC as single-ended analog input 4 or as a differential input with AIN5. As a differential input, the polarity of AIN4 is positive.", 5 REFADC (in) "ADC External Reference Input. Connect an external reference between 1V and VAVDD.", 6 AGND (power) "Analog Ground", 7 AIN3 (in) "Analog Input Channel 3. AIN3 is multiplexed to the PGA or ADC as single-ended analog input 3 or as a differential input with AIN2. As a differential input, the polarity of AIN3 is negative.", 8 AIN2 (in) "Analog Input Channel 2. AIN2 is multiplexed to the PGA or ADC as single-ended analog input 2 or as a differential input with AIN3. As a differential input, the polarity of AIN2 is positive.", 9 AIN1 (in) "Analog Input Channel 1. AIN1 is multiplexed to the PGA or ADC as single-ended analog input 1 or as a differential input with AIN0. As a differential input, the polarity of AIN1 is negative.", 10 AIN0 (in) "Analog Input Channel 0. AIN0 is multiplexed to the PGA or ADC as single-ended analog input 0 or as a differential input with AIN1. As a differential input, the polarity of AIN0 is positive.", 11 IC "Internally Connected. Connect to GNDIO for proper operation.", 12 P0.0 (io) "Port 0 Bit 0. P0.0 is a general-purpose digital I/O with interrupt/wake-up capability.", 13 P0.1 (io) "Port 0 Bit 1. P0.1 is a general-purpose digital I/O with interrupt/wake-up capability.", 14 P0.2 (io) "Port 0 Bit 2. P0.2 is a general-purpose digital I/O with interrupt/wake-up capability.", 15 GNDIO (power) "Digital I/O Ground and Regulator Ground", 16 CANRXD (in) "CAN Bus Receiver Input. CAN receiver input.", 17 CANTXD (out) "CAN Bus Transmitter Output. CAN transmitter output.", 18 ~{SS} (in) "Active-Low, SPI Port Slave Select Input. In SPI slave mode, this is the slave select input. In SPI master mode, this is an input and connection is optional (connect if mode fault enable is required, refer to the MAXQ7670 (See Datasheet)", 19 P0.6/T0 (io), 20 P0.7/T0B (io), 21 DVDDIO (power) "Digital I/O Supply Voltage and Regulator Supply Input. DVDDIO supplies all digital I/O except for XIN and XOUT, and supplies power to the two internal linear regulators, AVDD and DVDD. Bypass DVDDIO to GNDIO with a 0.1uF (See Datasheet)", 22 GNDIO (power) "Digital I/O Ground and Regulator Ground", 23 SCLK (io) "SPI Serial Clock. SCLK is the SPI interface serial clock I/O. In SPI master mode, SCLK is an output. While in SPI slave mode, SCLK is an input.", 24 MOSI (io) "SPI Serial Data I/O. MOSI is the SPI interface serial data output in master mode or serial data input in slave mode.", 25 MISO (io) "SPI Serial Data I/O. MISO is the SPI interface serial data input in master mode or serial data output in slave mode.", 26 ~{REGEN2} (in) "Active-Low +2.5V Linear Regulator Enable Input. Connect R\E\G\E\N\2\ to GNDIO to enable the +2.5V linear regulator. Connect to DVDDIO to disable the +2.5V linear regulator.", 27 TDO (out) "JTAG Serial Test Data Output. TDO is the JTAG serial test, data output.", 28 TMS (in) "JTAG Test Mode Select. TMS is the JTAG test mode, select input.", 29 TDI (in) "JTAG Serial Test Data Input. TDI is the JTAG serial test, data input.", 30 TCK (in) "JTAG Serial Test Clock Input. TCK is the JTAG serial test, clock input.", 31 P0.4/ADCCNV (io), 32 P0.5 (io) "Port 0 Bit 5. P0.5 is a general-purpose digital I/O with interrupt/wake-up capability.", 33 ~{RESET} (io) "Reset Input/Output. Active-low input/output with internal 55k ohm pullup to DVDDIO. Drive low to reset the MAXQ7670A. The MAXQ20 uC core holds R\E\S\E\T\ low during POR and during DVDD brownout conditions.", 34 DGND (power) "Digital Ground", 35 XOUT "High-Frequency Crystal Output. Connect an external crystal to XIN and XOUT for normal operation, or leave unconnected if XIN is driven with an external clock source. Leave unconnected if an external clock source is not used.", 36 XIN "High-Frequency Crystal Input. Connect an external crystal or resonator to XIN and XOUT for normal operation, or drive XIN with an external clock source. Leave unconnected if an external clock source is not used .", 37 DVDD (power) "Digital Supply Voltage. DVDD supplies internal digital core and flash memory. DVDD is directly connected to the output of the internal + 2.5V linear regulator . Disable the internal regulator (through R\E\G\E\N\2\) to (See Datasheet)", 38 GNDIO (power) "Digital I/O Ground and Regulator Ground", 39 DVDDIO (power) "Digital I/O Supply Voltage and Regulator Supply Input. DVDDIO supplies all digital I/O except for XIN and XOUT, and supplies power to the two internal linear regulators, AVDD and DVDD. Bypass DVDDIO to GNDIO with a 0.1uF (See Datasheet)", 40 AVDD (power) "Analog Supply Voltage. AVDD supplies PGA and ADC. AVDD is directly connected to the output of the internal +3.3V linear regulator. Disable the internal regulator (via software) to connect an external supply.Bypass AVDD to (See Datasheet)", 41 EP (power) "Exposed Pad. Connect EP to the ground plane."

## MAXQ7670ATL/V+T
designator U?
Microcontroller with 12-Bit ADC, PGA, 64 KB Flash, and CAN Interface, -40 to 125 degC, 40-Pin QFN (T4055+1), Pb-Free, Tape and Reel; Generic Part Number: MAXQ7670A; PartNumber: MAXQ7670ATL/V+T; Calibration Method: Integrated microcontroller with FLASH memory; Interface: CAN, SPI; Microcontroller/CPU: Microcontroller (16-bit, 16 MHz); Output Type: Digital; DatasheetVersion: Rev. 0; PackageVersion: Rev. Q, 09/2011; PackageReference: T4055+1; PackageDescription: 40-Pin Thin Quad Flatpack, No Leads, Body 5 x 5 mm, Pitch 0.4 mm; Supplier 1: Digi-Key; Supplier Part Number 1: MAXQ7670ATL/V+T-ND; Supplier 2: Mouser; Supplier Part Number 2: 700-MAXQ7670ATL/VT; DACs/ADCs: 12-bit ADC; Features: FLL, Internal Voltage Regulator ,Multiple External Interrupts ,Programmable-Gain Amplifier; Packing: Tape and Reel; Mounting Technology: Surface Mount; ComponentLink1Description: Manufacturer URL; ComponentLink1URL: http://www.maximintegrated.com/; ComponentLink2Description: Datasheet; ComponentLink2URL: http://datasheets.maximintegrated.com/en/ds/MAXQ7670A.pdf; ComponentLink3Description: Package Specification; ComponentLink3URL: http://pdfserv.maximintegrated.com/package_dwgs/21-0140.PDF
footprint MAXM-T4055+1_N (QFN, 40-Leads, Body 5x5mm, Pitch 0.4mm, Thermal Pad 3.5x3.5mm, IPC Medium Density)
footprint MAXM-T4055+1_L (QFN, 40-Leads, Body 5x5mm, Pitch 0.4mm, Thermal Pad 3.5x3.5mm, IPC High Density)
footprint MAXM-T4055+1_M (QFN, 40-Leads, Body 5x5mm, Pitch 0.4mm, Thermal Pad 3.5x3.5mm, IPC Low Density)
pins: 1 AIN7 (in) "Analog Input Channel 7. AIN7 is multiplexed to the PGA or ADC as single-ended analog input 7 or as a differential input with AIN6. As a differential input, the polarity of AIN7 is negative.", 2 AIN6 (in) "Analog Input Channel 6. AIN6 is multiplexed to the PGA or ADC as a single-ended analog input 6 or as a differential input with AIN7. As a differential input, the polarity of AIN6 is positive.", 3 AIN5 (in) "Analog Input Channel 5. AIN5 is multiplexed to the PGA or ADC as single-ended analog input 5 or as a differential input with AIN4. As a differential input, the polarity of AIN5 is negative.", 4 AIN4 (in) "Analog Input Channel 4. AIN4 is multiplexed to the PGA or ADC as single-ended analog input 4 or as a differential input with AIN5. As a differential input, the polarity of AIN4 is positive.", 5 REFADC (in) "ADC External Reference Input. Connect an external reference between 1V and VAVDD.", 6 AGND (power) "Analog Ground", 7 AIN3 (in) "Analog Input Channel 3. AIN3 is multiplexed to the PGA or ADC as single-ended analog input 3 or as a differential input with AIN2. As a differential input, the polarity of AIN3 is negative.", 8 AIN2 (in) "Analog Input Channel 2. AIN2 is multiplexed to the PGA or ADC as single-ended analog input 2 or as a differential input with AIN3. As a differential input, the polarity of AIN2 is positive.", 9 AIN1 (in) "Analog Input Channel 1. AIN1 is multiplexed to the PGA or ADC as single-ended analog input 1 or as a differential input with AIN0. As a differential input, the polarity of AIN1 is negative.", 10 AIN0 (in) "Analog Input Channel 0. AIN0 is multiplexed to the PGA or ADC as single-ended analog input 0 or as a differential input with AIN1. As a differential input, the polarity of AIN0 is positive.", 11 IC "Internally Connected. Connect to GNDIO for proper operation.", 12 P0.0 (io) "Port 0 Bit 0. P0.0 is a general-purpose digital I/O with interrupt/wake-up capability.", 13 P0.1 (io) "Port 0 Bit 1. P0.1 is a general-purpose digital I/O with interrupt/wake-up capability.", 14 P0.2 (io) "Port 0 Bit 2. P0.2 is a general-purpose digital I/O with interrupt/wake-up capability.", 15 GNDIO (power) "Digital I/O Ground and Regulator Ground", 16 CANRXD (in) "CAN Bus Receiver Input. CAN receiver input.", 17 CANTXD (out) "CAN Bus Transmitter Output. CAN transmitter output.", 18 ~{SS} (in) "Active-Low, SPI Port Slave Select Input. In SPI slave mode, this is the slave select input. In SPI master mode, this is an input and connection is optional (connect if mode fault enable is required, refer to the MAXQ7670 (See Datasheet)", 19 P0.6/T0 (io), 20 P0.7/T0B (io), 21 DVDDIO (power) "Digital I/O Supply Voltage and Regulator Supply Input. DVDDIO supplies all digital I/O except for XIN and XOUT, and supplies power to the two internal linear regulators, AVDD and DVDD. Bypass DVDDIO to GNDIO with a 0.1uF (See Datasheet)", 22 GNDIO (power) "Digital I/O Ground and Regulator Ground", 23 SCLK (io) "SPI Serial Clock. SCLK is the SPI interface serial clock I/O. In SPI master mode, SCLK is an output. While in SPI slave mode, SCLK is an input.", 24 MOSI (io) "SPI Serial Data I/O. MOSI is the SPI interface serial data output in master mode or serial data input in slave mode.", 25 MISO (io) "SPI Serial Data I/O. MISO is the SPI interface serial data input in master mode or serial data output in slave mode.", 26 ~{REGEN2} (in) "Active-Low +2.5V Linear Regulator Enable Input. Connect R\E\G\E\N\2\ to GNDIO to enable the +2.5V linear regulator. Connect to DVDDIO to disable the +2.5V linear regulator.", 27 TDO (out) "JTAG Serial Test Data Output. TDO is the JTAG serial test, data output.", 28 TMS (in) "JTAG Test Mode Select. TMS is the JTAG test mode, select input.", 29 TDI (in) "JTAG Serial Test Data Input. TDI is the JTAG serial test, data input.", 30 TCK (in) "JTAG Serial Test Clock Input. TCK is the JTAG serial test, clock input.", 31 P0.4/ADCCNV (io), 32 P0.5 (io) "Port 0 Bit 5. P0.5 is a general-purpose digital I/O with interrupt/wake-up capability.", 33 ~{RESET} (io) "Reset Input/Output. Active-low input/output with internal 55k ohm pullup to DVDDIO. Drive low to reset the MAXQ7670A. The MAXQ20 uC core holds R\E\S\E\T\ low during POR and during DVDD brownout conditions.", 34 DGND (power) "Digital Ground", 35 XOUT "High-Frequency Crystal Output. Connect an external crystal to XIN and XOUT for normal operation, or leave unconnected if XIN is driven with an external clock source. Leave unconnected if an external clock source is not used.", 36 XIN "High-Frequency Crystal Input. Connect an external crystal or resonator to XIN and XOUT for normal operation, or drive XIN with an external clock source. Leave unconnected if an external clock source is not used .", 37 DVDD (power) "Digital Supply Voltage. DVDD supplies internal digital core and flash memory. DVDD is directly connected to the output of the internal + 2.5V linear regulator . Disable the internal regulator (through R\E\G\E\N\2\) to (See Datasheet)", 38 GNDIO (power) "Digital I/O Ground and Regulator Ground", 39 DVDDIO (power) "Digital I/O Supply Voltage and Regulator Supply Input. DVDDIO supplies all digital I/O except for XIN and XOUT, and supplies power to the two internal linear regulators, AVDD and DVDD. Bypass DVDDIO to GNDIO with a 0.1uF (See Datasheet)", 40 AVDD (power) "Analog Supply Voltage. AVDD supplies PGA and ADC. AVDD is directly connected to the output of the internal +3.3V linear regulator. Disable the internal regulator (via software) to connect an external supply.Bypass AVDD to (See Datasheet)", 41 EP (power) "Exposed Pad. Connect EP to the ground plane."